# Altium schematic symbol library DRV2605LDGSR.SchLib: 2 symbols
Pins are listed as number, name and electrical type; pins without a type are passive.

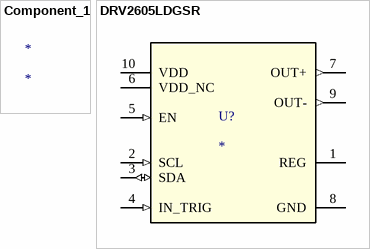
[diagram p0: symbols Component_1 to DRV2605LDGSR]

## Component_1
designator *

## DRV2605LDGSR
designator U?
No Description Available; Mfr_Name: Texas Instruments; PartNumber: DRV2605LDGS; CompType: IC; TYPE: TYPE; RefDes: RefDes; PackageReference: DGS0010A; MountType: SMT; RoHS: Y; Manufacturer: Texas Instruments
footprint DGS0010A
pins: 1 REG (power), 2 SCL (in), 3 SDA (io), 4 IN_TRIG (in), 5 EN (in), 6 VDD_NC (power), 7 OUT+ (out), 8 GND (power), 9 OUT- (out), 10 VDD (power)